# Altium footprint library 我的元件库03.PcbLib: 40 footprints (part 1 of 3)
Each footprint in its own frame and in the unit in brackets; x right, y up, seen from the top. Pads: shape width x height; smd on the part's side, far side on the other; paste and mask are expansions set on the pad; w line width, h text height; cw(c..) or ccw(c..) is an arc to the next point about the centre after c.
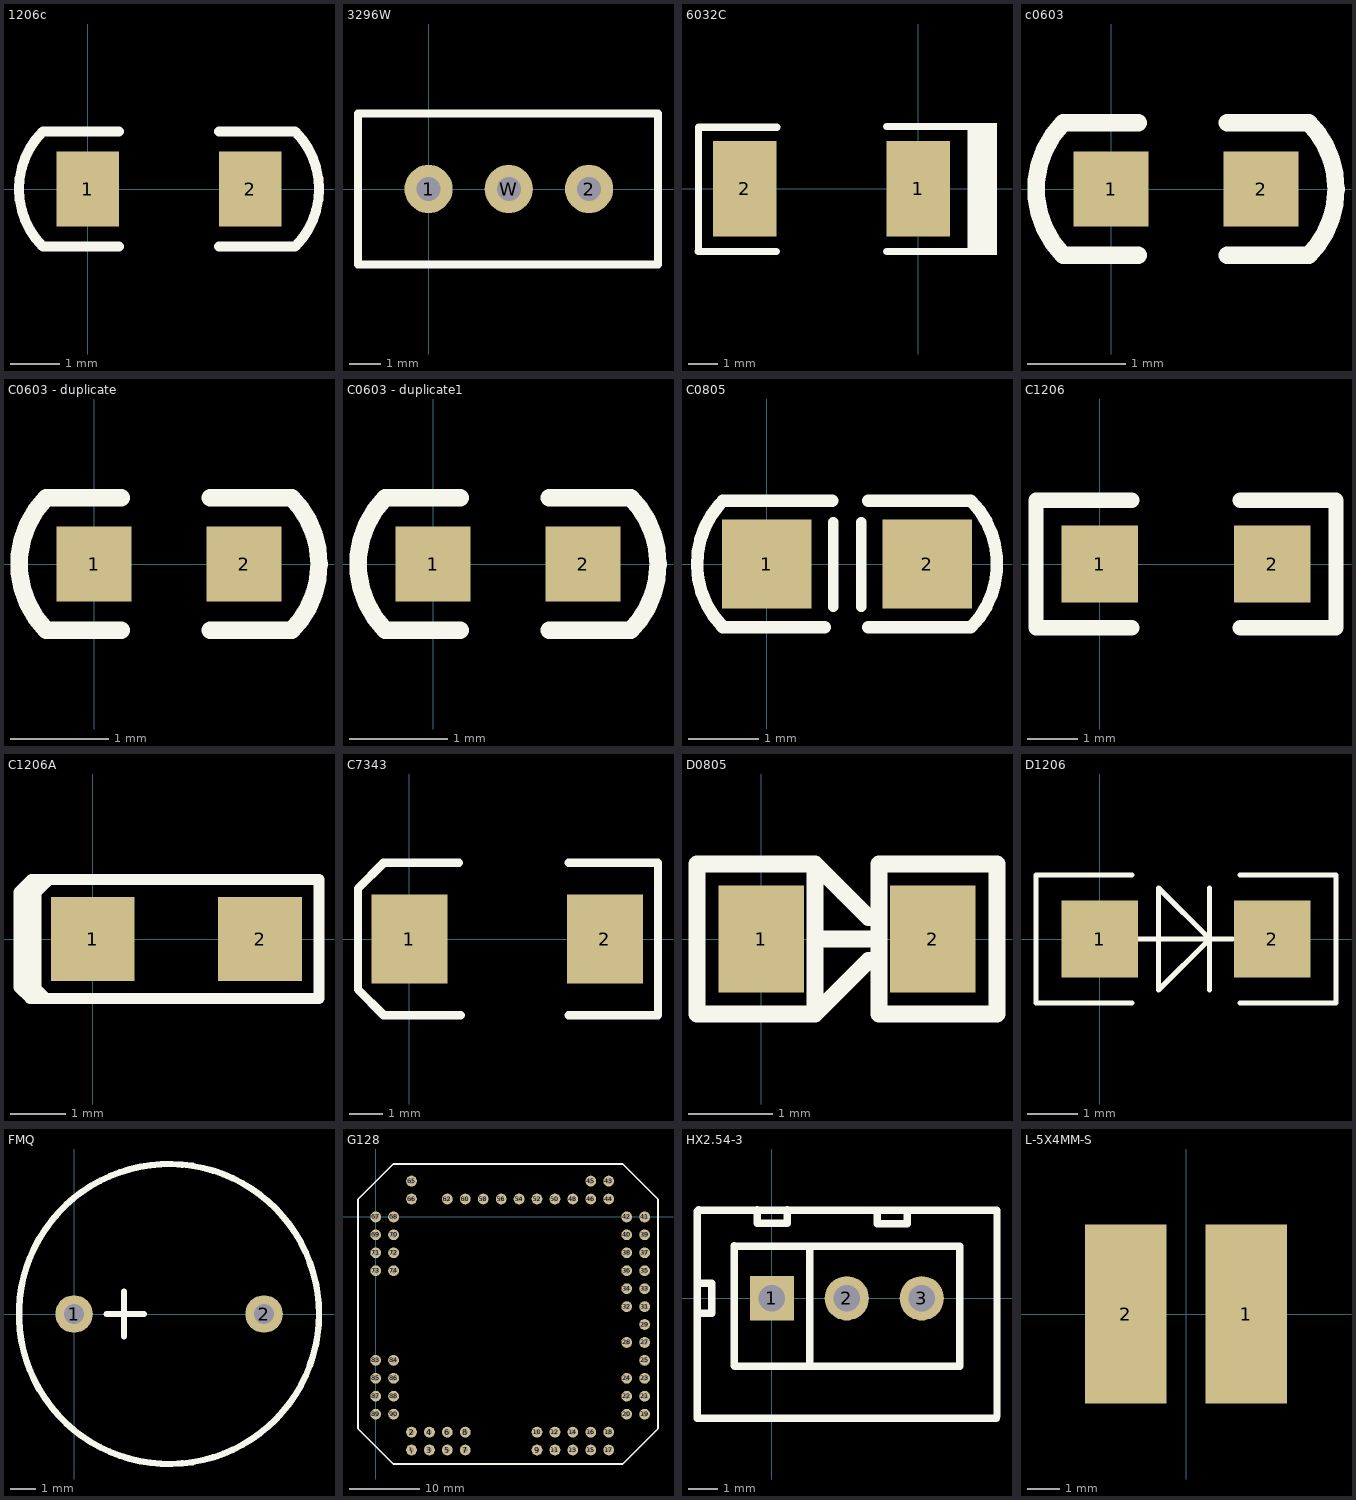
[diagram p0: the footprints below, top view; thin cyan lines are the x and y axes]

## 1206c [mil]
height 43.31
pads (2):
  rect 50x60 smd: 1(0,0) 2(130,0)
Top Overlay:
  lines w8: 25,-46 -36,-46 cw(c10,0) -36,46 25,46 ; 105,-46 166,-46 ccw(c120,0) 166,46 105,46

## 3296W [mil]
height 157.87
pads (3):
  round 60 hole 30: 1(0,0) 2(200,0) W(100,0)
Top Overlay:
  lines w10: -88,-94 -88,94 286,94 286,-94 -88,-94
3D body: height 454.72, standoff -62.99, extent -88.6,-94.48 286.6,94.49

## 6032C [mm]
pads (2):
  rect 2.2x3.3 smd: 1(0,0) 2(-6,0)
Top Overlay:
  rectangle: 1.699,-2.287 2.715,2.283
  lines w0.254: -7.605,-2.159 -4.905,-2.159 ; -7.6,-2.133 -7.6,2.133 -4.9,2.133 ; -1.095,-2.159 1.831,-2.159 ; -1.095,2.159 1.958,2.159

## c0603 [mil]
height 43.31
pads (2):
  rect 30x30 smd: 1(0,0) 2(60,0)
Top Overlay:
  lines w7: 10.98,-26.5 -19.02,-26.5 cw(c7.5,0) -19.02,26.52 10.98,26.5 ; 46.52,-26.52 79.02,-26.5 ccw(c52.5,0) 79.02,26.52 46.52,26.5
3D body: height 23.62, standoff 0, extent -1,-16 61.99,15.5

## C0603 - duplicate [mil]
height 43.31
pads (2):
  rect 30x30 smd: 1(0,0) 2(60,0)
Top Overlay:
  lines w7: 10.98,-26.5 -19.02,-26.5 cw(c7.5,0) -19.02,26.52 10.98,26.5 ; 46.52,-26.52 79.02,-26.5 ccw(c52.5,0) 79.02,26.52 46.52,26.5
3D body: height 23.62, standoff 0, extent -1,-16 61.99,15.5

## C0603 - duplicate1 [mil]
pads (2):
  rect 30x30 smd: 1(0,0) 2(60,0)
Top Overlay:
  lines w7: 10.98,-26.5 -19.02,-26.5 cw(c7.5,0) -19.02,26.52 10.98,26.5 ; 46.52,-26.52 79.02,-26.5 ccw(c52.5,0) 79.02,26.52 46.52,26.5
3D body: height 23.62, standoff 0, extent -1,-16 61.99,15.5

## C0805 [mil]
height 43.31
pads (2):
  rect 50x50 smd: 1(0,0) 2(90,0)
Top Overlay:
  lines w5.91: 37.25,-23.83 37.25,23.41 ; 53,-23.83 53,23.41
  lines w7: -26.39,33.35 ccw(c11.26,0) -25.09,-34.77 ; -24.64,-35.43 32.48,-35.43 ; -24.64,35.43 36.61,35.43 ; 56.82,-35.43 114.17,-35.43 ; 56.82,35.43 114.17,35.43 ; 114.31,-35.57 ccw(c78.74,0) 114.31,35.57
3D body: height 47.24, standoff 0, extent 6,-24 84.74,23.24

## C1206 [mil]
height 43.31
pads (2):
  rect 60x60 smd: 1(0,0) 2(135,0)
Top Overlay:
  lines w12: 25,-50 -50,-50 -50,50 25,50 ; 110,-50 185,-50 185,50 110,50
3D body: height 62.99, standoff 0, extent 5,-32 130.98,30.99

## C1206A [mm]
height 1.1
pads (2):
  rect 1.5x1.5 smd: 1(0,0) 2(3,0)
Top Overlay:
  lines w0.203: -1.143,-0.889 -1.143,0.889 ; -1.016,-0.635 -1.016,-0.888 -0.837,-1.067 -1.116,-1.067 -1.319,-0.864 -1.319,0.838 -1.091,1.067 -1.016,1.067 ; -1.016,0.533 -1.016,0.837 -0.786,1.067 ; -1.016,1.067 -1.016,-1.041 -0.991,-1.067 0.914,-1.067 2.176,-1.067 4.056,-1.067 4.056,1.041 4.056,1.067 2.151,1.067 0.914,1.067 -1.016,1.067
3D body: height 0.95, standoff 0, extent -0.102,-0.813 3.098,0.787

## C7343 [mm]
height 1.1
pads (2):
  rect 2.286x2.7 smd: 1(0,0) 2(5.9,0)
Top Overlay:
  lines w0.254: 1.497,2.3 -0.789,2.3 -0.789,2.286 -1.551,1.524 -1.551,-1.524 -0.789,-2.286 -0.789,-2.3 1.548,-2.3 ; 4.799,-2.3 7.466,-2.3 ; 4.799,2.3 7.466,2.3 ; 7.5,-2.3 7.5,2.3
3D body: height 3.1, standoff 0, extent -0.855,-2.325 6.745,2.275

## D0805 [mil]
height 43.31
pads (2):
  rect 40x50 smd: 1(0,0) 2(80,0)
Top Overlay:
  lines w7.87: 25,0 50,0 ; 31.09,28.91 31.52,28.48 ; 38.07,21.93 38.19,21.81 ; 50,-10 25,-35 ; 50,10 25,35 ; 55,-10 55,5 55,0 ; 25,-35 -30,-35 -30,35 25,35 ; 25,-35 25,35 ; 55,-35 110,-35 110,35 55,35 55,-35
3D body: height 33.45, standoff 0.23, extent -0.2,-16.84 81,18.84

## D1206 [mil]
pads (2):
  rect 60x60 smd: 1(0,0) 2(135,0)
Top Overlay:
  lines w3.94: 25,-50 -50,-50 -50,50 25,50 ; 30,0 104,0 ; 86,-40 86,0 ; 86,40 86,0 ; 110,-50 185,-50 185,50 110,50 ; 86,0 46,-40 46,40 86,0
3D body: height 59.06, standoff 0, extent 1.1,-30 138.9,29.06

## FMQ [mm]
height 1.1
pads (2):
  round 1.5 hole 0.8: 1(0,0) 2(7.6,0)
Top Overlay:
  circle w0.254: c3.799,0 r6.001
  lines w0.254: 1.3,0 2.8,0 ; 2,-0.9 2,0.9
3D body: height 9.65, standoff -4.5, extent -5.727,-6 9.727,6

## G128 [mil]
height 43.31
pads (70):
  round 60 hole 30: 2(200,-1200) 3(300,-1300) 4(300,-1200) 5(400,-1300) 6(400,-1200) 7(500,-1300) 8(500,-1200) 9(900,-1300) 10(900,-1200) 11(1000,-1300) 12(1000,-1200) 13(1100,-1300) 14(1100,-1200) 15(1200,-1300) 16(1200,-1200) 17(1300,-1300) 18(1300,-1200) 19(1500,-1100) 20(1400,-1100) 21(1500,-1000) 22(1400,-1000) 23(1500,-900) 24(1400,-900) 25(1500,-800) 27(1500,-700) 28(1400,-700) 29(1500,-600) 31(1500,-500) 32(1400,-500) 33(1500,-400) 34(1400,-400) 35(1500,-300) 36(1400,-300) 37(1500,-200) 38(1400,-200) 39(1500,-100) 40(1400,-100) 41(1500,0) 42(1400,0) 43(1300,200) 44(1300,100) 45(1200,200) 46(1200,100) 48(1100,100) 50(1000,100) 52(900,100) 54(800,100) 56(700,100) 58(600,100) 60(500,100) 62(400,100) 65(200,200) 66(200,100) 67(0,0) 68(100,0) 69(0,-100) 70(100,-100) 71(0,-200) 72(100,-200) 73(0,-300) 74(100,-300) 83(0,-800) 84(100,-800) 85(0,-900) 86(100,-900) 87(0,-1000) 88(100,-1000) 89(0,-1100) 90(100,-1100) \(200,-1300)
Top Overlay:
  lines w10: -98.43,-1181.1 98.43,-1377.95 1377.95,-1377.95 1574.8,-1181.1 1574.8,98.43 1377.95,295.28 98.43,295.28 -98.43,98.43 -98.43,0 -98.43,-1181.1

## HX2.54-3 [mm]
height 1.1
pads (3):
  rect 1.5x1.5 hole 0.9: 1(0,0)
  round 1.5 hole 0.9: 2(2.54,0) 3(5.08,0)
Top Overlay:
  lines w0.254: -2.54,-0.508 -2.032,-0.508 -2.032,0.508 -2.54,0.508 ; -2.536,2.54 -2.536,2.95 ; -2.496,2.995 7.633,2.995 7.633,-4.005 ; -1.27,-2.286 -1.27,1.778 ; -1.257,-2.296 6.363,-2.296 ; -1.257,1.768 6.375,1.768 ; -0.504,2.998 -0.504,2.538 0.512,2.538 0.512,2.998 ; 1.283,-2.296 1.283,1.768 ; 3.573,2.995 3.573,2.535 4.589,2.535 4.589,2.995 ; 6.375,-2.299 6.375,1.765 ; 7.607,-4.061 -2.536,-4.061 -2.536,2.95 ; -2.536,2.95 -2.488,2.998 -2.536,2.95
3D body: height 7, standoff -3, extent -2.409,-3.581 7.591,2.419

## L-5X4MM-S [mm]
height 4.5
pads (2):
  rect 2.5x5.5 smd: 1(1.85,0) 2(-1.85,0)
3D body: height -0.5, standoff -5.01, extent -2.857,-2.6 2.857,2.6